# Altium footprint library Coaxial Connectors (RF).PcbLib: 3 footprints
Each footprint in its own frame and in the unit in brackets; x right, y up, seen from the top. Pads: shape width x height; smd on the part's side, far side on the other; paste and mask are expansions set on the pad; w line width, h text height; cw(c..) or ccw(c..) is an arc to the next point about the centre after c.
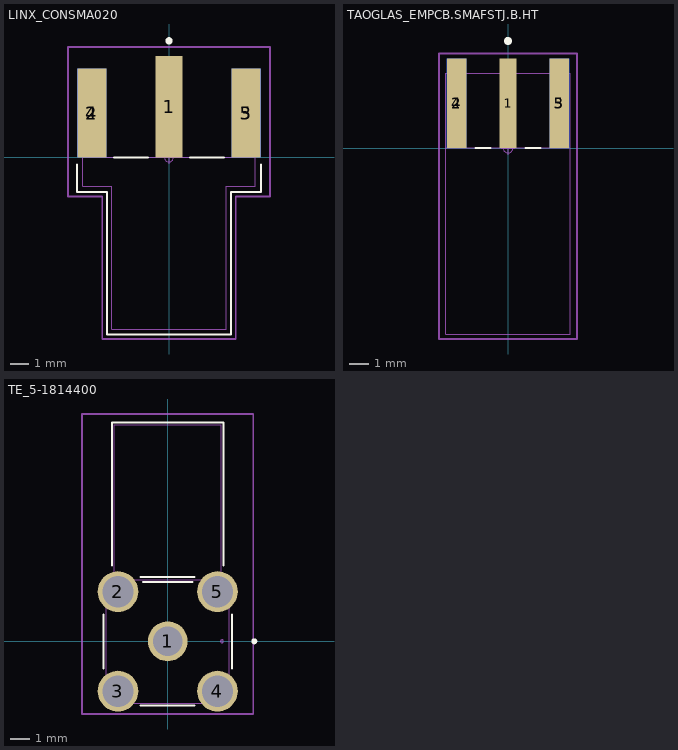
[diagram p0: the footprints below, top view; thin cyan lines are the x and y axes]

## LINX_CONSMA020 [mm]
pads (5):
  rect 1.5x5.6 smd: 1(0,2.8)
  rect 1.6x4.9 smd: 2(-4.26,2.45) 3(4.26,2.45)
  rect 1.6x4.9 smd far side: 4(-4.26,2.45) 5(4.26,2.45)
Top Overlay:
  circle w0.2: c0,6.44 r0.1
  lines w0.1: -5.08,-0.381 -5.08,-1.905 -3.429,-1.905 -3.429,-9.779 3.429,-9.779 3.429,-1.905 5.08,-1.905 5.08,-0.381 ; -3.048,0 -1.143,0 ; 1.143,0 3.048,0
Mechanical 13:
  lines w0.025: -4.76,0 -4.76,-1.6 -3.175,-1.6 -3.175,-9.5 3.175,-9.5 3.175,-1.6 4.76,-1.6 4.76,0 ; -4.76,0 -3.76,0 ; -4.76,0 -4.76,4.7 -3.76,4.7 -3.76,0 ; -3.76,0 -0.39,0 ; -0.39,0 0.39,0 ; -0.39,0 -0.39,4.7 0.39,4.7 0.39,0 ; 0.39,0 3.76,0 ; 3.76,0 4.76,0 ; 3.76,0 3.76,4.7 4.76,4.7 4.76,0
Mechanical 15:
  circle w0.05: c0,0 r0.25
  lines w0.05: -0.35,0 0.35,0 ; 0,-0.35 0,0.35
  lines w0.1: -5.588,-2.159 -3.683,-2.159 -3.683,-10.033 3.683,-10.033 3.683,-2.159 5.588,-2.159 5.588,6.096 -5.588,6.096 -5.588,-2.159
3D body "step_temp.STEP": height 4.35, standoff -3.57, extent -4.76,-9.5 4.76,4.7

## TAOGLAS_EMPCB.SMAFSTJ.B.HT [mm]
pads (5):
  rect 0.85x4.56 smd: 1(0,2.286)
  rect 1x4.56 smd: 2(-2.62,2.286) 3(2.62,2.286)
  rect 1x4.56 smd far side: 4(-2.62,2.286) 5(2.62,2.286)
Top Overlay:
  circle w0.2: c0,5.461 r0.1
  lines w0.1: -1.651,0 -0.889,0 ; 0.889,0 1.651,0
Mechanical 13:
  lines w0.05: 3.175,0.006 -3.175,0.006 ; -3.175,0.006 -3.175,-9.494 3.175,-9.494 3.175,3.806 -3.175,3.806 -3.175,0.006
Mechanical 15:
  circle w0.05: c0,0 r0.25
  lines w0.05: -0.35,0 0.35,0 ; 0,-0.35 0,0.35
  lines w0.1: -3.52,-9.744 3.52,-9.744 3.52,4.816 -3.52,4.816 -3.52,-9.744
3D body "EMPCB.SMAFSTJ.B.HT--3DModel-STEP-1.STEP": height 3.65, standoff -2.74, extent -3.191,-9.489 3.191,3.811

## TE_5-1814400 [mil]
pads (5):
  round 80 hole 59.06 mask+0: 1(0,0)
  round 82 hole 62.99 mask+0: 2(-100,100) 3(-100,-100) 4(100,-100) 5(100,100)
Top Overlay:
  circle w6: c174.02,0 r3
  lines w3.94: -129.02,-54.34 -129.02,54.34 ; -112.28,152.69 -112.28,440.04 112.28,440.04 112.28,152.69 ; -54.34,-129.02 54.34,-129.02 ; -54.34,129.02 54.34,129.02 ; -49.35,119.02 49.35,119.02 ; 129.02,-54.34 129.02,54.34
Mechanical 13:
  circle w0: c109.02,0 r3
  lines w1: -124.02,-124.02 -124.02,124.02 124.02,124.02 124.02,-124.02 -124.02,-124.02 ; -107.28,124.02 -107.28,435.04 107.28,435.04 107.28,124.02 -107.28,124.02
Mechanical 15:
  circle w1.97: c0,0 r9.84
  lines w1.97: -13.78,0 13.78,0 ; 0,-13.78 0,13.78
  lines w3.94: -171.93,-146 171.93,-146 171.93,457.02 -171.93,457.02 -171.93,-146
3D body "5-1814400.step": height 412.6, standoff -120.08, extent -124.55,-124.02 124.55,435.04